# Altium footprint library Arduino_DUE_V02b.PcbLib: 41 footprints (part 1 of 3)
Each footprint in its own frame and in the unit in brackets; x right, y up, seen from the top. Pads: shape width x height; smd on the part's side, far side on the other; paste and mask are expansions set on the pad; w line width, h text height; cw(c..) or ccw(c..) is an arc to the next point about the centre after c.
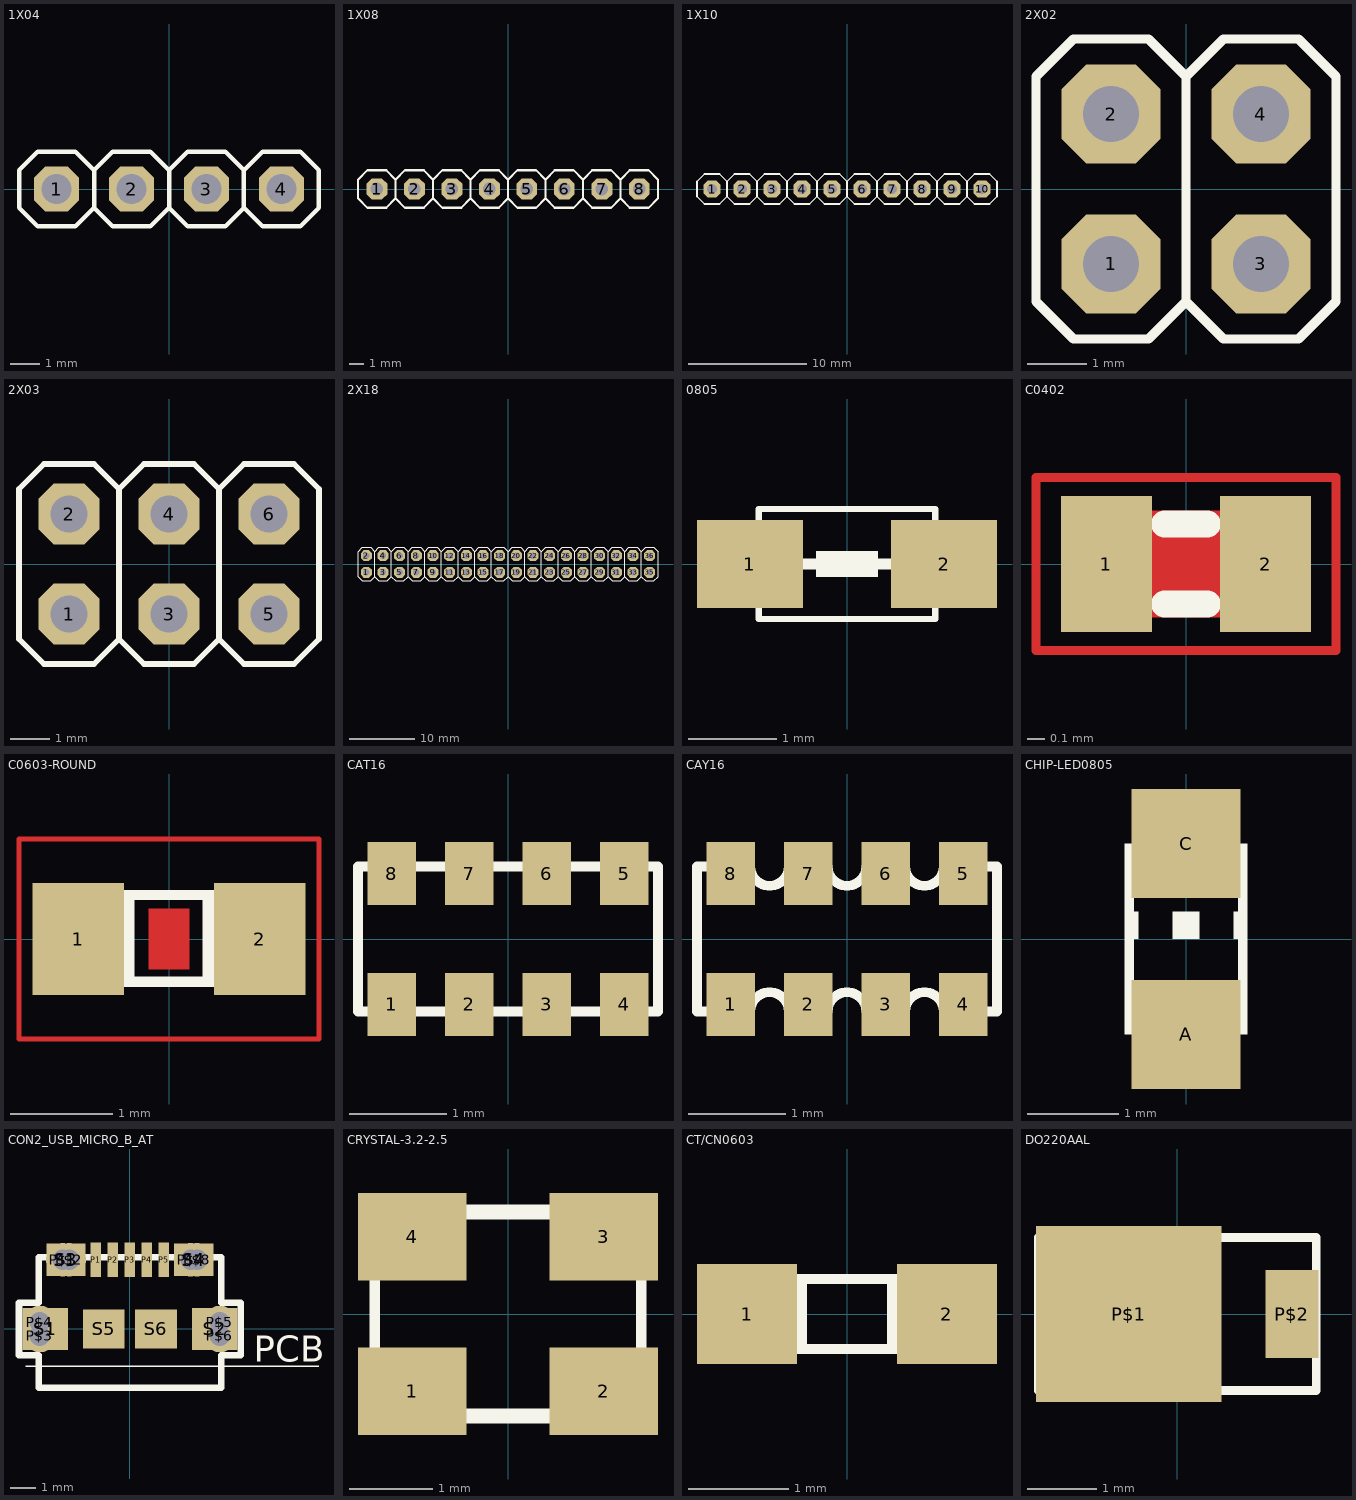
[diagram p0: the footprints below, top view; thin cyan lines are the x and y axes]

## 1X04 [mil]
pads (4):
  oct 60x60 hole 40: 1(-150,0) 2(-50,0) 3(50,0) 4(150,0)
Top Overlay:
  rectangle: 40,-10 60,10
  rectangle: -60,-10 -40,10
  rectangle: -160,-10 -140,10
  rectangle: 140,-10 160,10
  lines w6: -100,-25 -100,25 ; -100,-25 -125,-50 -175,-50 -200,-25 -200,25 -175,50 -125,50 -100,25 ; -100,-25 -75,-50 -25,-50 0,-25 ; -100,25 -75,50 -25,50 0,25 ; 0,-25 25,-50 75,-50 100,-25 ; 0,-25 0,25 ; 0,25 25,50 75,50 100,25 ; 100,-25 100,25 ; 100,-25 125,-50 175,-50 200,-25 200,25 175,50 125,50 100,25

## 1X08 [mil]
pads (8):
  oct 56x56 hole 33.46: 1(-350,0) 2(-250,0) 3(-150,0) 4(-50,0) 5(50,0) 6(150,0) 7(250,0) 8(350,0)
Top Overlay:
  rectangle: 340,-10 360,10
  rectangle: -360,-10 -340,10
  rectangle: -260,-10 -240,10
  rectangle: -160,-10 -140,10
  rectangle: -60,-10 -40,10
  rectangle: 40,-10 60,10
  rectangle: 140,-10 160,10
  rectangle: 240,-10 260,10
  lines w6: -300,-25 -275,-50 -225,-50 -200,-25 ; -300,-25 -325,-50 -375,-50 -400,-25 -400,25 -375,50 -325,50 -300,25 ; -300,-25 -300,25 ; -300,25 -275,50 -225,50 -200,25 ; -200,-25 -200,25 ; -200,-25 -175,-50 -125,-50 -100,-25 ; -200,25 -175,50 -125,50 -100,25 ; -100,-25 -75,-50 -25,-50 0,-25 ; -100,-25 -100,25 ; -100,25 -75,50 -25,50 0,25 ; 0,-25 25,-50 75,-50 100,-25 ; 0,-25 0,25 ; 0,25 25,50 75,50 100,25 ; 100,-25 100,25 ; 100,-25 125,-50 175,-50 200,-25 ; 100,25 125,50 175,50 200,25 ; 200,-25 225,-50 275,-50 300,-25 ; 200,-25 200,25 ; 200,25 225,50 275,50 300,25 ; 300,-25 325,-50 375,-50 400,-25 400,25 375,50 325,50 300,25 ; 300,-25 300,25

## 1X10 [mil]
pads (10):
  oct 56x56 hole 33.46: 1(-450,0) 2(-350,0) 3(-250,0) 4(-150,0) 5(-50,0) 6(50,0) 7(150,0) 8(250,0) 9(350,0) 10(450,0)
Top Overlay:
  rectangle: 440,-10 460,10
  rectangle: -460,-10 -440,10
  rectangle: -360,-10 -340,10
  rectangle: -260,-10 -240,10
  rectangle: -160,-10 -140,10
  rectangle: -60,-10 -40,10
  rectangle: 40,-10 60,10
  rectangle: 140,-10 160,10
  rectangle: 240,-10 260,10
  rectangle: 340,-10 360,10
  lines w6: -400,-25 -375,-50 -325,-50 -300,-25 ; -400,-25 -425,-50 -475,-50 -500,-25 -500,25 -475,50 -425,50 -400,25 ; -400,-25 -400,25 ; -400,25 -375,50 -325,50 -300,25 ; -300,-25 -300,25 ; -300,-25 -275,-50 -225,-50 -200,-25 ; -300,25 -275,50 -225,50 -200,25 ; -200,-25 -175,-50 -125,-50 -100,-25 ; -200,-25 -200,25 ; -200,25 -175,50 -125,50 -100,25 ; -100,-25 -75,-50 -25,-50 0,-25 ; -100,-25 -100,25 ; -100,25 -75,50 -25,50 0,25 ; 0,-25 0,25 ; 0,-25 25,-50 75,-50 100,-25 ; 0,25 25,50 75,50 100,25 ; 100,-25 125,-50 175,-50 200,-25 ; 100,-25 100,25 ; 100,25 125,50 175,50 200,25 ; 200,-25 225,-50 275,-50 300,-25 ; 200,-25 200,25 ; 200,25 225,50 275,50 300,25 ; 300,-25 300,25 ; 300,-25 325,-50 375,-50 400,-25 ; 300,25 325,50 375,50 400,25 ; 400,-25 425,-50 475,-50 500,-25 500,25 475,50 425,50 400,25 ; 400,-25 400,25

## 2X02 [mil]
pads (4):
  oct 66x66 hole 37.4: 1(-50,-50) 2(-50,50) 3(50,-50) 4(50,50)
Top Overlay:
  rectangle: 40,-60 60,-40
  rectangle: 40,40 60,60
  rectangle: -60,40 -40,60
  rectangle: -60,-60 -40,-40
  lines w6: 0,-75 0,75 ; 0,-75 25,-100 75,-100 100,-75 100,75 75,100 25,100 0,75 ; 0,-75 -25,-100 -75,-100 -100,-75 -100,75 -75,100 -25,100 0,75

## 2X03 [mm]
pads (6):
  oct 1.55x1.55 hole 0.95: 1(-2.54,-1.27) 2(-2.54,1.27) 3(0,-1.27) 4(0,1.27) 5(2.54,-1.27) 6(2.54,1.27)
Top Overlay:
  rectangle: 2.286,-1.524 2.794,-1.016
  rectangle: 2.286,1.016 2.794,1.524
  rectangle: -0.254,-1.524 0.254,-1.016
  rectangle: -0.254,1.016 0.254,1.524
  rectangle: -2.794,1.016 -2.286,1.524
  rectangle: -2.794,-1.524 -2.286,-1.016
  lines w0.152: -1.27,-1.905 -1.27,1.905 ; -1.27,-1.905 -0.635,-2.54 0.635,-2.54 1.27,-1.905 ; -1.27,-1.905 -1.905,-2.54 -3.175,-2.54 -3.81,-1.905 -3.81,1.905 -3.175,2.54 -1.905,2.54 -1.27,1.905 ; -1.27,1.905 -0.635,2.54 0.635,2.54 1.27,1.905 ; 1.27,-1.905 1.905,-2.54 3.175,-2.54 3.81,-1.905 3.81,1.905 3.175,2.54 1.905,2.54 1.27,1.905 ; 1.27,-1.905 1.27,1.905

## 2X18 [mil]
pads (36):
  oct 66x66 hole 37.4: 1(-850,-50) 2(-850,50) 3(-750,-50) 4(-750,50) 5(-650,-50) 6(-650,50) 7(-550,-50) 8(-550,50) 9(-450,-50) 10(-450,50) 11(-350,-50) 12(-350,50) 13(-250,-50) 14(-250,50) 15(-150,-50) 16(-150,50) 17(-50,-50) 18(-50,50) 19(50,-50) 20(50,50) 21(150,-50) 22(150,50) 23(250,-50) 24(250,50) 25(350,-50) 26(350,50) 27(450,-50) 28(450,50) 29(550,-50) 30(550,50) 31(650,-50) 32(650,50) 33(750,-50) 34(750,50) 35(850,-50) 36(850,50)
Top Overlay:
  drawing of 163 lines, arcs and shapes, not listed

## 0805 [mm]
pads (2):
  rect 1.2x1 smd: 1(-1.1,0) 2(1.1,0)
Top Overlay:
  rectangle: -0.35,-0.15 0.35,0.15
  lines w0.07: -1,-0.625 -1,0.625 1,0.625 1,-0.625 -1,-0.625
  lines w0.127: -1.3,0 1.2,0 ; -1.1,0 1.1,0

## C0402 [mil]
pads (2):
  rect 20x30 smd: 1(-17.5,0) 2(17.5,0)
Top Layer:
  rectangle: -7.87,-11.81 7.87,11.81
  lines w2: -32.99,-19.02 -32.99,19.02 32.99,19.02 32.99,-19.02 -32.99,-19.02
Top Overlay:
  rectangle: 10,-10 20,10
  rectangle: -20,-10 -10,10
  lines w6: -4.65,-8.82 4.65,-8.82 ; -4.65,8.82 4.65,8.82

## C0603-ROUND [mm]
pads (2):
  rect 0.898x1.1 smd: 1(-0.889,0) 2(0.889,0)
Top Layer:
  rectangle: -0.2,-0.3 0.2,0.3
  lines w0.051: -1.473,-0.983 -1.473,0.983 1.473,0.983 1.473,-0.983 -1.473,-0.983
Top Overlay:
  rectangle: 0.33,-0.47 0.83,0.48
  rectangle: -0.838,-0.47 -0.338,0.48
  lines w0.102: -0.356,-0.419 0.356,-0.419 ; -0.356,0.432 0.356,0.432

## CAT16 [mm]
pads (8):
  rect 0.5x0.65 smd: 1(-1.2,-0.675) 2(-0.4,-0.675) 3(0.4,-0.675) 4(1.2,-0.675) 5(1.2,0.675) 6(0.4,0.675) 7(-0.4,0.675) 8(-1.2,0.675)
Top Overlay:
  lines w0.102: -0.2,-0.75 ccw(c-0.4,-0.75) -0.6,-0.75 -1,-0.75 ccw(c-1.2,-0.75) -1.4,-0.75 -1.55,-0.75 -1.55,0.75 -1.4,0.75 ccw(c-1.2,0.75) -1,0.75 -0.6,0.75 ccw(c-0.4,0.75) -0.2,0.75 ; -0.2,-0.75 0.2,-0.75 ; -0.2,0.75 0.2,0.75 ; 0.2,-0.75 cw(c0.4,-0.75) 0.6,-0.75 1,-0.75 cw(c1.2,-0.75) 1.4,-0.75 1.55,-0.75 1.55,0.75 1.4,0.75 cw(c1.2,0.75) 1,0.75 0.6,0.75 cw(c0.4,0.75) 0.2,0.75

## CAY16 [mm]
pads (8):
  rect 0.5x0.65 smd: 1(-1.2,-0.675) 2(-0.4,-0.675) 3(0.4,-0.675) 4(1.2,-0.675) 5(1.2,0.675) 6(0.4,0.675) 7(-0.4,0.675) 8(-1.2,0.675)
Top Overlay:
  lines w0.102: -0.6,-0.75 ccw(c-0.8,-0.75) -1,-0.75 -1.55,-0.75 -1.55,0.75 -1,0.75 ccw(c-0.8,0.75) -0.6,0.75 ; -0.6,-0.75 -0.2,-0.75 cw(c0,-0.75) 0.2,-0.75 0.6,-0.75 ; -0.6,0.75 -0.2,0.75 ccw(c0,0.75) 0.2,0.75 0.6,0.75 ; 0.6,-0.75 cw(c0.8,-0.75) 1,-0.75 1.55,-0.75 1.55,0.75 1,0.75 cw(c0.8,0.75) 0.6,0.75

## CHIP-LED0805 [mm]
pads (2):
  rect 1.2x1.2 smd: A(0,-1.05) C(0,1.05)
Top Overlay:
  rectangle: -0.675,-1.05 0.675,-0.45
  rectangle: -0.675,0.45 0.675,1.05
  rectangle: -0.15,0 0.15,0.3
  rectangle: 0.525,0 0.675,0.3
  rectangle: -0.675,0 -0.525,0.3
  lines w0.102: -0.625,-0.45 -0.625,0.45 ; 0.625,-0.475 0.625,0.45

## CON2_USB_MICRO_B_AT [mil]
pads (19):
  rect 16x53 smd: P1(-52,106) P2(-26,106) P3(0,106) P4(26,106) P5(52,106)
  round 51.5 hole 31.5: P$1(-103,106) P$2(-93,106) P$3(-138,-10) P$4(-138,10) P$5(138,10) P$6(138,-10) P$7(93,106) P$8(103,106)
  rect 70x65 smd: S1(-130,0) S2(130,0)
  rect 60x50 smd: S3(-98,106) S4(98,106)
  rect 64x60 smd: S5(-40,0) S6(40,0)
Top Layer:
  text "DELETE SOLDER PADS" at 300,-150 h32
Top Overlay:
  lines w2: -160,-57 290,-57
  lines w10: -170,-40 -170,40 -140,40 -140,110 140,110 140,40 170,40 170,-40 140,-40 140,-90 -140,-90 -140,-40 -170,-40
  text "PCB" at 190,-50 h40

## CRYSTAL-3.2-2.5 [mm]
pads (4):
  rect 1.3x1.05 smd: 1(-1.15,-0.925) 2(1.15,-0.925) 3(1.15,0.925) 4(-1.15,0.925)
Top Overlay:
  lines w0.127: -1.6,-1.25 -1.6,1.25 1.6,1.25 1.6,-1.25 -1.6,-1.25 ; -1.6,-1.2 -1.6,1.2 1.6,1.2 1.6,-1.2 -1.6,-1.2

## CT/CN0603 [mm]
pads (2):
  rect 1x1 smd: 1(-1,0) 2(1,0)
Top Overlay:
  region: 0.75,0.35 0.4,0.35 0.4,-0.35 0.75,-0.35
  rectangle: -0.75,-0.35 -0.4,0.35
  lines w0.102: -0.75,-0.35 -0.75,0.35 0.75,0.35 0.75,-0.35 -0.75,-0.35

## DO220AAL [mil]
pads (2):
  rect 105x100 smd: P$1(-27.56,0)
  rect 30x50 smd: P$2(64.96,0)
Top Overlay:
  lines w5: -78.74,-43.31 -78.74,43.31 78.74,43.31 78.74,-43.31 -78.74,-43.31
  lines w16: -39.37,-39.37 -39.37,39.37